# Altium integrated library 0541670208.IntLib: 1 symbol
Pins are listed as number, name and electrical type; pins without a type are passive.

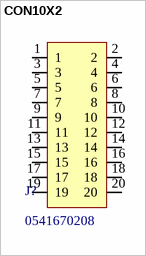
[diagram p0: symbol CON10X2]

## CON10X2
designator J?, comment 0541670208
PDF: http://www.molex.com/pdm_docs/sd/541670208_sd.pdf; BUY_LINK: http://www.digikey.com/product-search/en?vendor=0&keywords=54167-0208&stock=1; PRICE: 2.89000; ID: 0541670208
footprint 0541670208
pins: 1, 2, 3, 4, 5, 6, 7, 8, 9, 10, 11, 12, 13, 14, 15, 16, 17, 18, 19, 20